# Altium schematic symbol library Button Push 2T.Schlib: 1 symbol
Pins are listed as number, name and electrical type; pins without a type are passive.

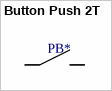
[diagram p0: symbol Button Push 2T]

## Button Push 2T
designator PB*  (value not drawn)
SMD,3×4×2.0mm Tactile Switches RoHS; ComponentLink1Description: LCSC - XUNPU TS-1088-AR02016; ComponentLink1URL: https://lcsc.com/product-detail/Tactile-Switches_XUNPU-TS-1088-AR02016_C720477.html; LCSC Part #: C720477; LCSC Part Type: Extended
footprint BUTTON-3*4
pins: 1, 2